# Altium integrated library Renesas Diode.IntLib: 1609 symbols (part 28 of 31)
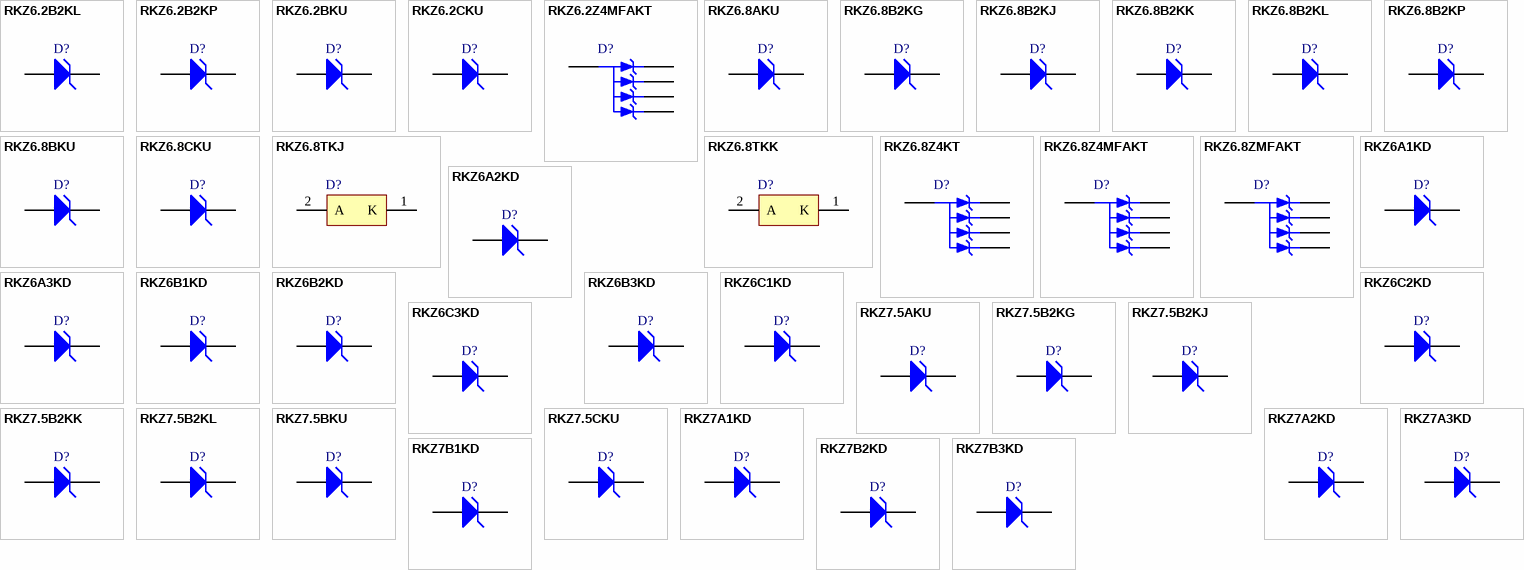
[diagram p72: symbols RKZ6.2B2KL to RKZ7B3KD]

## RKZ6A2KD
designator D?
Silicon Planar Zener Diode for Stabilized Power Supply; Published: 12-Feb-2010; DatasheetVersion: Rev.2.00, May-2008; PackageVersion: Aug-2005; PackageReference: GLZZ0002ZA-A; Publisher: Altium Limited; PackageDescription: Metal Electrode Face (MELF) Diode; Body 3.5 x 1.35 mm (LxDia); ComponentLink1Description: Manufacturer Link; ComponentLink1URL: http://sg.renesas.com/fmwk.jsp?cnt=diode_landing.jsp&fp=/products/discrete/diodes/; ComponentLink2Description: Datasheet; ComponentLink2URL: http://documentation.renesas.com/eng/products/diode/rej03g1264_rkz_kd.pdf; ComponentLink3Description: Packaging Specification; ComponentLink3URL: http://sg.renesas.com/media/products/common_info/package/pdf/diode/code/glzz0002za_a.pdf
footprint GLZZ0002ZA-A (Metal Electrode Face (MELF) Diode; Body 3.5 x 1.35 mm (LxDia))
signal-integrity model RKZ6A2KD
pins: 1 K, 2 A

## RKZ6A3KD
designator D?
Silicon Planar Zener Diode for Stabilized Power Supply; Published: 12-Feb-2010; DatasheetVersion: Rev.2.00, May-2008; PackageVersion: Aug-2005; PackageReference: GLZZ0002ZA-A; Publisher: Altium Limited; PackageDescription: Metal Electrode Face (MELF) Diode; Body 3.5 x 1.35 mm (LxDia); ComponentLink1Description: Manufacturer Link; ComponentLink1URL: http://sg.renesas.com/fmwk.jsp?cnt=diode_landing.jsp&fp=/products/discrete/diodes/; ComponentLink2Description: Datasheet; ComponentLink2URL: http://documentation.renesas.com/eng/products/diode/rej03g1264_rkz_kd.pdf; ComponentLink3Description: Packaging Specification; ComponentLink3URL: http://sg.renesas.com/media/products/common_info/package/pdf/diode/code/glzz0002za_a.pdf
footprint GLZZ0002ZA-A (Metal Electrode Face (MELF) Diode; Body 3.5 x 1.35 mm (LxDia))
signal-integrity model RKZ6A3KD
pins: 1 K, 2 A

## RKZ6B1KD
designator D?
Silicon Planar Zener Diode for Stabilized Power Supply; Published: 12-Feb-2010; DatasheetVersion: Rev.2.00, May-2008; PackageVersion: Aug-2005; PackageReference: GLZZ0002ZA-A; Publisher: Altium Limited; PackageDescription: Metal Electrode Face (MELF) Diode; Body 3.5 x 1.35 mm (LxDia); ComponentLink1Description: Manufacturer Link; ComponentLink1URL: http://sg.renesas.com/fmwk.jsp?cnt=diode_landing.jsp&fp=/products/discrete/diodes/; ComponentLink2Description: Datasheet; ComponentLink2URL: http://documentation.renesas.com/eng/products/diode/rej03g1264_rkz_kd.pdf; ComponentLink3Description: Packaging Specification; ComponentLink3URL: http://sg.renesas.com/media/products/common_info/package/pdf/diode/code/glzz0002za_a.pdf
footprint GLZZ0002ZA-A (Metal Electrode Face (MELF) Diode; Body 3.5 x 1.35 mm (LxDia))
signal-integrity model RKZ6B1KD
pins: 1 K, 2 A

## RKZ6B2KD
designator D?
Silicon Planar Zener Diode for Stabilized Power Supply; Published: 12-Feb-2010; DatasheetVersion: Rev.2.00, May-2008; PackageVersion: Aug-2005; PackageReference: GLZZ0002ZA-A; Publisher: Altium Limited; PackageDescription: Metal Electrode Face (MELF) Diode; Body 3.5 x 1.35 mm (LxDia); ComponentLink1Description: Manufacturer Link; ComponentLink1URL: http://sg.renesas.com/fmwk.jsp?cnt=diode_landing.jsp&fp=/products/discrete/diodes/; ComponentLink2Description: Datasheet; ComponentLink2URL: http://documentation.renesas.com/eng/products/diode/rej03g1264_rkz_kd.pdf; ComponentLink3Description: Packaging Specification; ComponentLink3URL: http://sg.renesas.com/media/products/common_info/package/pdf/diode/code/glzz0002za_a.pdf
footprint GLZZ0002ZA-A (Metal Electrode Face (MELF) Diode; Body 3.5 x 1.35 mm (LxDia))
signal-integrity model RKZ6B2KD
pins: 1 K, 2 A

## RKZ6B3KD
designator D?
Silicon Planar Zener Diode for Stabilized Power Supply; Published: 12-Feb-2010; DatasheetVersion: Rev.2.00, May-2008; PackageVersion: Aug-2005; PackageReference: GLZZ0002ZA-A; Publisher: Altium Limited; PackageDescription: Metal Electrode Face (MELF) Diode; Body 3.5 x 1.35 mm (LxDia); ComponentLink1Description: Manufacturer Link; ComponentLink1URL: http://sg.renesas.com/fmwk.jsp?cnt=diode_landing.jsp&fp=/products/discrete/diodes/; ComponentLink2Description: Datasheet; ComponentLink2URL: http://documentation.renesas.com/eng/products/diode/rej03g1264_rkz_kd.pdf; ComponentLink3Description: Packaging Specification; ComponentLink3URL: http://sg.renesas.com/media/products/common_info/package/pdf/diode/code/glzz0002za_a.pdf
footprint GLZZ0002ZA-A (Metal Electrode Face (MELF) Diode; Body 3.5 x 1.35 mm (LxDia))
signal-integrity model RKZ6B3KD
pins: 1 K, 2 A

## RKZ6C1KD
designator D?
Silicon Planar Zener Diode for Stabilized Power Supply; Published: 12-Feb-2010; DatasheetVersion: Rev.2.00, May-2008; PackageVersion: Aug-2005; PackageReference: GLZZ0002ZA-A; Publisher: Altium Limited; PackageDescription: Metal Electrode Face (MELF) Diode; Body 3.5 x 1.35 mm (LxDia); ComponentLink1Description: Manufacturer Link; ComponentLink1URL: http://sg.renesas.com/fmwk.jsp?cnt=diode_landing.jsp&fp=/products/discrete/diodes/; ComponentLink2Description: Datasheet; ComponentLink2URL: http://documentation.renesas.com/eng/products/diode/rej03g1264_rkz_kd.pdf; ComponentLink3Description: Packaging Specification; ComponentLink3URL: http://sg.renesas.com/media/products/common_info/package/pdf/diode/code/glzz0002za_a.pdf
footprint GLZZ0002ZA-A (Metal Electrode Face (MELF) Diode; Body 3.5 x 1.35 mm (LxDia))
signal-integrity model RKZ6C1KD
pins: 1 K, 2 A

## RKZ6C2KD
designator D?
Silicon Planar Zener Diode for Stabilized Power Supply; Published: 12-Feb-2010; DatasheetVersion: Rev.2.00, May-2008; PackageVersion: Aug-2005; PackageReference: GLZZ0002ZA-A; Publisher: Altium Limited; PackageDescription: Metal Electrode Face (MELF) Diode; Body 3.5 x 1.35 mm (LxDia); ComponentLink1Description: Manufacturer Link; ComponentLink1URL: http://sg.renesas.com/fmwk.jsp?cnt=diode_landing.jsp&fp=/products/discrete/diodes/; ComponentLink2Description: Datasheet; ComponentLink2URL: http://documentation.renesas.com/eng/products/diode/rej03g1264_rkz_kd.pdf; ComponentLink3Description: Packaging Specification; ComponentLink3URL: http://sg.renesas.com/media/products/common_info/package/pdf/diode/code/glzz0002za_a.pdf
footprint GLZZ0002ZA-A (Metal Electrode Face (MELF) Diode; Body 3.5 x 1.35 mm (LxDia))
signal-integrity model RKZ6C2KD
pins: 1 K, 2 A

## RKZ6C3KD
designator D?
Silicon Planar Zener Diode for Stabilized Power Supply; Published: 12-Feb-2010; DatasheetVersion: Rev.2.00, May-2008; PackageVersion: Aug-2005; PackageReference: GLZZ0002ZA-A; Publisher: Altium Limited; PackageDescription: Metal Electrode Face (MELF) Diode; Body 3.5 x 1.35 mm (LxDia); ComponentLink1Description: Manufacturer Link; ComponentLink1URL: http://sg.renesas.com/fmwk.jsp?cnt=diode_landing.jsp&fp=/products/discrete/diodes/; ComponentLink2Description: Datasheet; ComponentLink2URL: http://documentation.renesas.com/eng/products/diode/rej03g1264_rkz_kd.pdf; ComponentLink3Description: Packaging Specification; ComponentLink3URL: http://sg.renesas.com/media/products/common_info/package/pdf/diode/code/glzz0002za_a.pdf
footprint GLZZ0002ZA-A (Metal Electrode Face (MELF) Diode; Body 3.5 x 1.35 mm (LxDia))
signal-integrity model RKZ6C3KD
pins: 1 K, 2 A

## RKZ7.5AKU
designator D?
Silicon Planar Zener Diode for Stabilized Power Supply; Published: 12-Feb-2010; DatasheetVersion: Rev.1.00, Jul-2009; PackageVersion: Jul-2009; PackageReference: PUSF0002ZD-A; Publisher: Altium Limited; PackageDescription: 2-Pin Plastic Small Outline Diode, Flat Leads, Body 1.3 x 1.9 mm (TURP-FM); ComponentLink1Description: Manufacturer Link; ComponentLink1URL: http://sg.renesas.com/fmwk.jsp?cnt=diode_landing.jsp&fp=/products/discrete/diodes/; ComponentLink2Description: Datasheet; ComponentLink2URL: http://documentation.renesas.com/eng/products/diode/rej03g1771_rkz_kuds.pdf; ComponentLink3Description: Packaging Specification; ComponentLink3URL: http://sg.renesas.com/media/products/common_info/package/pdf/diode/code/pusf0002zd_a.pdf
footprint PUSF0002ZD-A (SOD, 2-Flat Leads, Body 1.3x1.9x0.65mm, Renesas Recommended)
signal-integrity model RKZ7.5AKU
pins: 1 K, 2 A

## RKZ7.5B2KG
designator D?
Silicon Planar Zener Diode for Surge Absorption and Stabilizer; Published: 12-Feb-2010; DatasheetVersion: Rev.3.00, Feb-2009; PackageVersion: Sep-2005; PackageReference: PTSP0002ZA-A; Publisher: Altium Limited; PackageDescription: 2-Pin SC-76 Package, 1.7 x 1.3 mm Body; Code_JEITA: SC-76A; ComponentLink1Description: Manufacturer Link; ComponentLink1URL: http://sg.renesas.com/fmwk.jsp?cnt=diode_landing.jsp&fp=/products/discrete/diodes/; ComponentLink2Description: Datasheet; ComponentLink2URL: http://documentation.renesas.com/eng/products/diode/rej03g1512_rkz_kg.pdf; ComponentLink3Description: Packaging Specification; ComponentLink3URL: http://sg.renesas.com/media/products/common_info/package/pdf/diode/code/ptsp0002za_a.pdf
footprint PTSP0002ZA-A (SC-76; 2 Leads; Body 1.7x1.3mm, Renesas Recommended)
signal-integrity model RKZ7.5B2KG
pins: 1 K, 2 A

## RKZ7.5B2KJ
designator D?
Silicon Planar Zener Diode for Surge Absorption and Stabilizer; Published: 12-Feb-2010; DatasheetVersion: Rev.1.00, Sep-2007; PackageVersion: Oct-2006; PackageReference: PWSF0002ZA-A; Publisher: Altium Limited; PackageDescription: 2-Pin Plastic Small Outline Diode, Flat Leads, Body 0.8 x 1.2 mm (UFP); Code_JEITA: SC-79; ComponentLink1Description: Manufacturer Link; ComponentLink1URL: http://sg.renesas.com/fmwk.jsp?cnt=diode_landing.jsp&fp=/products/discrete/diodes/; ComponentLink2Description: Datasheet; ComponentLink2URL: http://documentation.renesas.com/eng/products/diode/rej03g1588_rkz_kjds.pdf; ComponentLink3Description: Packaging Specification; ComponentLink3URL: http://sg.renesas.com/media/products/common_info/package/pdf/diode/code/pwsf0002za_a.pdf
footprint PWSF0002ZA-A (SOD, 2-Flat Leads, Body 0.8x1.2x0.7mm, Renesas Recommended)
signal-integrity model RKZ7.5B2KJ
pins: 1 K, 2 A

## RKZ7.5B2KK
designator D?
Silicon Planar Zener Diode for Surge Absorption and Stabilizer; Published: 12-Feb-2010; DatasheetVersion: Rev.1.00, Mar-2007; PackageVersion: Oct-2006; PackageReference: PUSF0002ZB-A; Publisher: Altium Limited; PackageDescription: 2-Pin Plastic Small Outline Diode, Flat Leads, Body 0.6 x 1.0 mm (SFP); ComponentLink1Description: Manufacturer Link; ComponentLink1URL: http://sg.renesas.com/fmwk.jsp?cnt=diode_landing.jsp&fp=/products/discrete/diodes/; ComponentLink2Description: Datasheet; ComponentLink2URL: http://documentation.renesas.com/eng/products/diode/rej03g1518_rkz_kkds.pdf; ComponentLink3Description: Packaging Specification; ComponentLink3URL: http://sg.renesas.com/media/products/common_info/package/pdf/diode/code/pusf0002zb_a.pdf
footprint PUSF0002ZB-A (SOD, 2-Flat Leads, Body 0.6x1.0x0.55mm, Renesas Recommended)
signal-integrity model RKZ7.5B2KK
pins: 1 K, 2 A

## RKZ7.5B2KL
designator D?
Silicon Planar Zener Diode for Surge Absorption and Stabilizer; Published: 12-Feb-2010; DatasheetVersion: Rev.1.00, May-2007; PackageVersion: Oct-2006; PackageReference: PXSF0002ZA-A; Publisher: Altium Limited; PackageDescription: 2-Pin Plastic Small Outline Diode, Flat Leads, Body 0.6 x 0.8 mm (EFP); ComponentLink1Description: Manufacturer Link; ComponentLink1URL: http://sg.renesas.com/fmwk.jsp?cnt=diode_landing.jsp&fp=/products/discrete/diodes/; ComponentLink2Description: Datasheet; ComponentLink2URL: http://documentation.renesas.com/eng/products/diode/rej03g1519_rkz_klds.pdf; ComponentLink3Description: Packaging Specification; ComponentLink3URL: http://sg.renesas.com/media/products/common_info/package/pdf/diode/code/pxsf0002za_a.pdf
footprint PXSF0002ZA-A (SOD, 2-Flat Leads, Body 0.6x0.8x0.5mm, Renesas Recommended)
signal-integrity model RKZ7.5B2KL
pins: 1 K, 2 A

## RKZ7.5BKU
designator D?
Silicon Planar Zener Diode for Stabilized Power Supply; Published: 12-Feb-2010; DatasheetVersion: Rev.1.00, Jul-2009; PackageVersion: Jul-2009; PackageReference: PUSF0002ZD-A; Publisher: Altium Limited; PackageDescription: 2-Pin Plastic Small Outline Diode, Flat Leads, Body 1.3 x 1.9 mm (TURP-FM); ComponentLink1Description: Manufacturer Link; ComponentLink1URL: http://sg.renesas.com/fmwk.jsp?cnt=diode_landing.jsp&fp=/products/discrete/diodes/; ComponentLink2Description: Datasheet; ComponentLink2URL: http://documentation.renesas.com/eng/products/diode/rej03g1771_rkz_kuds.pdf; ComponentLink3Description: Packaging Specification; ComponentLink3URL: http://sg.renesas.com/media/products/common_info/package/pdf/diode/code/pusf0002zd_a.pdf
footprint PUSF0002ZD-A (SOD, 2-Flat Leads, Body 1.3x1.9x0.65mm, Renesas Recommended)
signal-integrity model RKZ7.5BKU
pins: 1 K, 2 A

## RKZ7.5CKU
designator D?
Silicon Planar Zener Diode for Stabilized Power Supply; Published: 12-Feb-2010; DatasheetVersion: Rev.1.00, Jul-2009; PackageVersion: Jul-2009; PackageReference: PUSF0002ZD-A; Publisher: Altium Limited; PackageDescription: 2-Pin Plastic Small Outline Diode, Flat Leads, Body 1.3 x 1.9 mm (TURP-FM); ComponentLink1Description: Manufacturer Link; ComponentLink1URL: http://sg.renesas.com/fmwk.jsp?cnt=diode_landing.jsp&fp=/products/discrete/diodes/; ComponentLink2Description: Datasheet; ComponentLink2URL: http://documentation.renesas.com/eng/products/diode/rej03g1771_rkz_kuds.pdf; ComponentLink3Description: Packaging Specification; ComponentLink3URL: http://sg.renesas.com/media/products/common_info/package/pdf/diode/code/pusf0002zd_a.pdf
footprint PUSF0002ZD-A (SOD, 2-Flat Leads, Body 1.3x1.9x0.65mm, Renesas Recommended)
signal-integrity model RKZ7.5CKU
pins: 1 K, 2 A

## RKZ7A1KD
designator D?
Silicon Planar Zener Diode for Stabilized Power Supply; Published: 12-Feb-2010; DatasheetVersion: Rev.2.00, May-2008; PackageVersion: Aug-2005; PackageReference: GLZZ0002ZA-A; Publisher: Altium Limited; PackageDescription: Metal Electrode Face (MELF) Diode; Body 3.5 x 1.35 mm (LxDia); ComponentLink1Description: Manufacturer Link; ComponentLink1URL: http://sg.renesas.com/fmwk.jsp?cnt=diode_landing.jsp&fp=/products/discrete/diodes/; ComponentLink2Description: Datasheet; ComponentLink2URL: http://documentation.renesas.com/eng/products/diode/rej03g1264_rkz_kd.pdf; ComponentLink3Description: Packaging Specification; ComponentLink3URL: http://sg.renesas.com/media/products/common_info/package/pdf/diode/code/glzz0002za_a.pdf
footprint GLZZ0002ZA-A (Metal Electrode Face (MELF) Diode; Body 3.5 x 1.35 mm (LxDia))
signal-integrity model RKZ7A1KD
pins: 1 K, 2 A

## RKZ7A2KD
designator D?
Silicon Planar Zener Diode for Stabilized Power Supply; Published: 12-Feb-2010; DatasheetVersion: Rev.2.00, May-2008; PackageVersion: Aug-2005; PackageReference: GLZZ0002ZA-A; Publisher: Altium Limited; PackageDescription: Metal Electrode Face (MELF) Diode; Body 3.5 x 1.35 mm (LxDia); ComponentLink1Description: Manufacturer Link; ComponentLink1URL: http://sg.renesas.com/fmwk.jsp?cnt=diode_landing.jsp&fp=/products/discrete/diodes/; ComponentLink2Description: Datasheet; ComponentLink2URL: http://documentation.renesas.com/eng/products/diode/rej03g1264_rkz_kd.pdf; ComponentLink3Description: Packaging Specification; ComponentLink3URL: http://sg.renesas.com/media/products/common_info/package/pdf/diode/code/glzz0002za_a.pdf
footprint GLZZ0002ZA-A (Metal Electrode Face (MELF) Diode; Body 3.5 x 1.35 mm (LxDia))
signal-integrity model RKZ7A2KD
pins: 1 K, 2 A

## RKZ7A3KD
designator D?
Silicon Planar Zener Diode for Stabilized Power Supply; Published: 12-Feb-2010; DatasheetVersion: Rev.2.00, May-2008; PackageVersion: Aug-2005; PackageReference: GLZZ0002ZA-A; Publisher: Altium Limited; PackageDescription: Metal Electrode Face (MELF) Diode; Body 3.5 x 1.35 mm (LxDia); ComponentLink1Description: Manufacturer Link; ComponentLink1URL: http://sg.renesas.com/fmwk.jsp?cnt=diode_landing.jsp&fp=/products/discrete/diodes/; ComponentLink2Description: Datasheet; ComponentLink2URL: http://documentation.renesas.com/eng/products/diode/rej03g1264_rkz_kd.pdf; ComponentLink3Description: Packaging Specification; ComponentLink3URL: http://sg.renesas.com/media/products/common_info/package/pdf/diode/code/glzz0002za_a.pdf
footprint GLZZ0002ZA-A (Metal Electrode Face (MELF) Diode; Body 3.5 x 1.35 mm (LxDia))
signal-integrity model RKZ7A3KD
pins: 1 K, 2 A

## RKZ7B1KD
designator D?
Silicon Planar Zener Diode for Stabilized Power Supply; Published: 12-Feb-2010; DatasheetVersion: Rev.2.00, May-2008; PackageVersion: Aug-2005; PackageReference: GLZZ0002ZA-A; Publisher: Altium Limited; PackageDescription: Metal Electrode Face (MELF) Diode; Body 3.5 x 1.35 mm (LxDia); ComponentLink1Description: Manufacturer Link; ComponentLink1URL: http://sg.renesas.com/fmwk.jsp?cnt=diode_landing.jsp&fp=/products/discrete/diodes/; ComponentLink2Description: Datasheet; ComponentLink2URL: http://documentation.renesas.com/eng/products/diode/rej03g1264_rkz_kd.pdf; ComponentLink3Description: Packaging Specification; ComponentLink3URL: http://sg.renesas.com/media/products/common_info/package/pdf/diode/code/glzz0002za_a.pdf
footprint GLZZ0002ZA-A (Metal Electrode Face (MELF) Diode; Body 3.5 x 1.35 mm (LxDia))
signal-integrity model RKZ7B1KD
pins: 1 K, 2 A

## RKZ7B2KD
designator D?
Silicon Planar Zener Diode for Stabilized Power Supply; Published: 12-Feb-2010; DatasheetVersion: Rev.2.00, May-2008; PackageVersion: Aug-2005; PackageReference: GLZZ0002ZA-A; Publisher: Altium Limited; PackageDescription: Metal Electrode Face (MELF) Diode; Body 3.5 x 1.35 mm (LxDia); ComponentLink1Description: Manufacturer Link; ComponentLink1URL: http://sg.renesas.com/fmwk.jsp?cnt=diode_landing.jsp&fp=/products/discrete/diodes/; ComponentLink2Description: Datasheet; ComponentLink2URL: http://documentation.renesas.com/eng/products/diode/rej03g1264_rkz_kd.pdf; ComponentLink3Description: Packaging Specification; ComponentLink3URL: http://sg.renesas.com/media/products/common_info/package/pdf/diode/code/glzz0002za_a.pdf
footprint GLZZ0002ZA-A (Metal Electrode Face (MELF) Diode; Body 3.5 x 1.35 mm (LxDia))
signal-integrity model RKZ7B2KD
pins: 1 K, 2 A

## RKZ7B3KD
designator D?
Silicon Planar Zener Diode for Stabilized Power Supply; Published: 12-Feb-2010; DatasheetVersion: Rev.2.00, May-2008; PackageVersion: Aug-2005; PackageReference: GLZZ0002ZA-A; Publisher: Altium Limited; PackageDescription: Metal Electrode Face (MELF) Diode; Body 3.5 x 1.35 mm (LxDia); ComponentLink1Description: Manufacturer Link; ComponentLink1URL: http://sg.renesas.com/fmwk.jsp?cnt=diode_landing.jsp&fp=/products/discrete/diodes/; ComponentLink2Description: Datasheet; ComponentLink2URL: http://documentation.renesas.com/eng/products/diode/rej03g1264_rkz_kd.pdf; ComponentLink3Description: Packaging Specification; ComponentLink3URL: http://sg.renesas.com/media/products/common_info/package/pdf/diode/code/glzz0002za_a.pdf
footprint GLZZ0002ZA-A (Metal Electrode Face (MELF) Diode; Body 3.5 x 1.35 mm (LxDia))
signal-integrity model RKZ7B3KD
pins: 1 K, 2 A

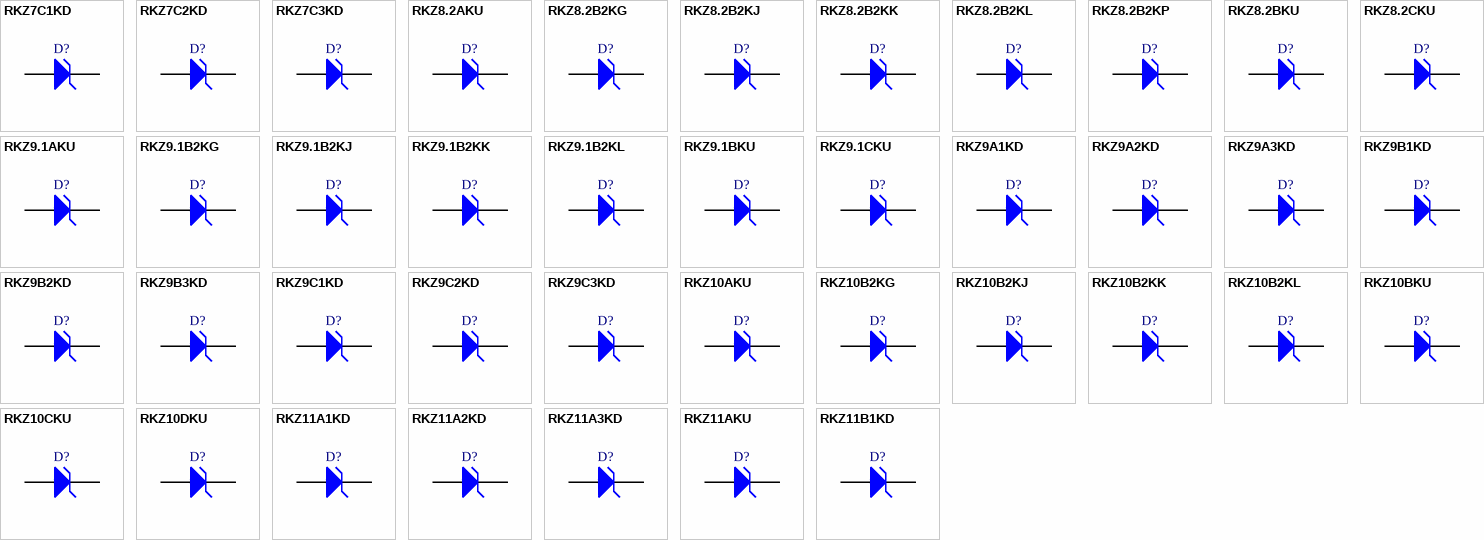
[diagram p41: symbols RKZ7C1KD to RKZ11B1KD]

## RKZ7C1KD
designator D?
Silicon Planar Zener Diode for Stabilized Power Supply; Published: 12-Feb-2010; DatasheetVersion: Rev.2.00, May-2008; PackageVersion: Aug-2005; PackageReference: GLZZ0002ZA-A; Publisher: Altium Limited; PackageDescription: Metal Electrode Face (MELF) Diode; Body 3.5 x 1.35 mm (LxDia); ComponentLink1Description: Manufacturer Link; ComponentLink1URL: http://sg.renesas.com/fmwk.jsp?cnt=diode_landing.jsp&fp=/products/discrete/diodes/; ComponentLink2Description: Datasheet; ComponentLink2URL: http://documentation.renesas.com/eng/products/diode/rej03g1264_rkz_kd.pdf; ComponentLink3Description: Packaging Specification; ComponentLink3URL: http://sg.renesas.com/media/products/common_info/package/pdf/diode/code/glzz0002za_a.pdf
footprint GLZZ0002ZA-A (Metal Electrode Face (MELF) Diode; Body 3.5 x 1.35 mm (LxDia))
signal-integrity model RKZ7C1KD
pins: 1 K, 2 A

## RKZ7C2KD
designator D?
Silicon Planar Zener Diode for Stabilized Power Supply; Published: 12-Feb-2010; DatasheetVersion: Rev.2.00, May-2008; PackageVersion: Aug-2005; PackageReference: GLZZ0002ZA-A; Publisher: Altium Limited; PackageDescription: Metal Electrode Face (MELF) Diode; Body 3.5 x 1.35 mm (LxDia); ComponentLink1Description: Manufacturer Link; ComponentLink1URL: http://sg.renesas.com/fmwk.jsp?cnt=diode_landing.jsp&fp=/products/discrete/diodes/; ComponentLink2Description: Datasheet; ComponentLink2URL: http://documentation.renesas.com/eng/products/diode/rej03g1264_rkz_kd.pdf; ComponentLink3Description: Packaging Specification; ComponentLink3URL: http://sg.renesas.com/media/products/common_info/package/pdf/diode/code/glzz0002za_a.pdf
footprint GLZZ0002ZA-A (Metal Electrode Face (MELF) Diode; Body 3.5 x 1.35 mm (LxDia))
signal-integrity model RKZ7C2KD
pins: 1 K, 2 A

## RKZ7C3KD
designator D?
Silicon Planar Zener Diode for Stabilized Power Supply; Published: 12-Feb-2010; DatasheetVersion: Rev.2.00, May-2008; PackageVersion: Aug-2005; PackageReference: GLZZ0002ZA-A; Publisher: Altium Limited; PackageDescription: Metal Electrode Face (MELF) Diode; Body 3.5 x 1.35 mm (LxDia); ComponentLink1Description: Manufacturer Link; ComponentLink1URL: http://sg.renesas.com/fmwk.jsp?cnt=diode_landing.jsp&fp=/products/discrete/diodes/; ComponentLink2Description: Datasheet; ComponentLink2URL: http://documentation.renesas.com/eng/products/diode/rej03g1264_rkz_kd.pdf; ComponentLink3Description: Packaging Specification; ComponentLink3URL: http://sg.renesas.com/media/products/common_info/package/pdf/diode/code/glzz0002za_a.pdf
footprint GLZZ0002ZA-A (Metal Electrode Face (MELF) Diode; Body 3.5 x 1.35 mm (LxDia))
signal-integrity model RKZ7C3KD
pins: 1 K, 2 A

## RKZ8.2AKU
designator D?
Silicon Planar Zener Diode for Stabilized Power Supply; Published: 12-Feb-2010; DatasheetVersion: Rev.1.00, Jul-2009; PackageVersion: Jul-2009; PackageReference: PUSF0002ZD-A; Publisher: Altium Limited; PackageDescription: 2-Pin Plastic Small Outline Diode, Flat Leads, Body 1.3 x 1.9 mm (TURP-FM); ComponentLink1Description: Manufacturer Link; ComponentLink1URL: http://sg.renesas.com/fmwk.jsp?cnt=diode_landing.jsp&fp=/products/discrete/diodes/; ComponentLink2Description: Datasheet; ComponentLink2URL: http://documentation.renesas.com/eng/products/diode/rej03g1771_rkz_kuds.pdf; ComponentLink3Description: Packaging Specification; ComponentLink3URL: http://sg.renesas.com/media/products/common_info/package/pdf/diode/code/pusf0002zd_a.pdf
footprint PUSF0002ZD-A (SOD, 2-Flat Leads, Body 1.3x1.9x0.65mm, Renesas Recommended)
signal-integrity model RKZ8.2AKU
pins: 1 K, 2 A

## RKZ8.2B2KG
designator D?
Silicon Planar Zener Diode for Surge Absorption and Stabilizer; Published: 12-Feb-2010; DatasheetVersion: Rev.3.00, Feb-2009; PackageVersion: Sep-2005; PackageReference: PTSP0002ZA-A; Publisher: Altium Limited; PackageDescription: 2-Pin SC-76 Package, 1.7 x 1.3 mm Body; Code_JEITA: SC-76A; ComponentLink1Description: Manufacturer Link; ComponentLink1URL: http://sg.renesas.com/fmwk.jsp?cnt=diode_landing.jsp&fp=/products/discrete/diodes/; ComponentLink2Description: Datasheet; ComponentLink2URL: http://documentation.renesas.com/eng/products/diode/rej03g1512_rkz_kg.pdf; ComponentLink3Description: Packaging Specification; ComponentLink3URL: http://sg.renesas.com/media/products/common_info/package/pdf/diode/code/ptsp0002za_a.pdf
footprint PTSP0002ZA-A (SC-76; 2 Leads; Body 1.7x1.3mm, Renesas Recommended)
signal-integrity model RKZ8.2B2KG
pins: 1 K, 2 A

## RKZ8.2B2KJ
designator D?
Silicon Planar Zener Diode for Surge Absorption and Stabilizer; Published: 12-Feb-2010; DatasheetVersion: Rev.1.00, Sep-2007; PackageVersion: Oct-2006; PackageReference: PWSF0002ZA-A; Publisher: Altium Limited; PackageDescription: 2-Pin Plastic Small Outline Diode, Flat Leads, Body 0.8 x 1.2 mm (UFP); Code_JEITA: SC-79; ComponentLink1Description: Manufacturer Link; ComponentLink1URL: http://sg.renesas.com/fmwk.jsp?cnt=diode_landing.jsp&fp=/products/discrete/diodes/; ComponentLink2Description: Datasheet; ComponentLink2URL: http://documentation.renesas.com/eng/products/diode/rej03g1588_rkz_kjds.pdf; ComponentLink3Description: Packaging Specification; ComponentLink3URL: http://sg.renesas.com/media/products/common_info/package/pdf/diode/code/pwsf0002za_a.pdf
footprint PWSF0002ZA-A (SOD, 2-Flat Leads, Body 0.8x1.2x0.7mm, Renesas Recommended)
signal-integrity model RKZ8.2B2KJ
pins: 1 K, 2 A

## RKZ8.2B2KK
designator D?
Silicon Planar Zener Diode for Surge Absorption and Stabilizer; Published: 12-Feb-2010; DatasheetVersion: Rev.1.00, Mar-2007; PackageVersion: Oct-2006; PackageReference: PUSF0002ZB-A; Publisher: Altium Limited; PackageDescription: 2-Pin Plastic Small Outline Diode, Flat Leads, Body 0.6 x 1.0 mm (SFP); ComponentLink1Description: Manufacturer Link; ComponentLink1URL: http://sg.renesas.com/fmwk.jsp?cnt=diode_landing.jsp&fp=/products/discrete/diodes/; ComponentLink2Description: Datasheet; ComponentLink2URL: http://documentation.renesas.com/eng/products/diode/rej03g1518_rkz_kkds.pdf; ComponentLink3Description: Packaging Specification; ComponentLink3URL: http://sg.renesas.com/media/products/common_info/package/pdf/diode/code/pusf0002zb_a.pdf
footprint PUSF0002ZB-A (SOD, 2-Flat Leads, Body 0.6x1.0x0.55mm, Renesas Recommended)
signal-integrity model RKZ8.2B2KK
pins: 1 K, 2 A

## RKZ8.2B2KL
designator D?
Silicon Planar Zener Diode for Surge Absorption and Stabilizer; Published: 12-Feb-2010; DatasheetVersion: Rev.1.00, May-2007; PackageVersion: Oct-2006; PackageReference: PXSF0002ZA-A; Publisher: Altium Limited; PackageDescription: 2-Pin Plastic Small Outline Diode, Flat Leads, Body 0.6 x 0.8 mm (EFP); ComponentLink1Description: Manufacturer Link; ComponentLink1URL: http://sg.renesas.com/fmwk.jsp?cnt=diode_landing.jsp&fp=/products/discrete/diodes/; ComponentLink2Description: Datasheet; ComponentLink2URL: http://documentation.renesas.com/eng/products/diode/rej03g1519_rkz_klds.pdf; ComponentLink3Description: Packaging Specification; ComponentLink3URL: http://sg.renesas.com/media/products/common_info/package/pdf/diode/code/pxsf0002za_a.pdf
footprint PXSF0002ZA-A (SOD, 2-Flat Leads, Body 0.6x0.8x0.5mm, Renesas Recommended)
signal-integrity model RKZ8.2B2KL
pins: 1 K, 2 A

## RKZ8.2B2KP
designator D?
Silicon Planar Zener Diode for Surge Absorption; Published: 12-Feb-2010; DatasheetVersion: Rev.1.00, Aug-2008; PackageVersion: Jul-2006; PackageReference: PXSN0002ZB-A; Publisher: Altium Limited; PackageDescription: Chip Diode 0201 Case Size; ComponentLink1Description: Manufacturer Link; ComponentLink1URL: http://sg.renesas.com/fmwk.jsp?cnt=diode_landing.jsp&fp=/products/discrete/diodes/; ComponentLink2Description: Datasheet; ComponentLink2URL: http://documentation.renesas.com/eng/products/diode/rej03g1728_rkz_kpds.pdf; ComponentLink3Description: Packaging Specification; ComponentLink3URL: http://sg.renesas.com/media/products/common_info/package/pdf/diode/code/pxsn0002zb_a.pdf
footprint PXSN0002ZB-A_V (Chip Diode; Body 0.62x0.32mm, Renesas Recommended)
footprint PXSN0002ZB-A_N (Chip Diode; Body 0.62x0.32mm, IPC Medium Density)
footprint PXSN0002ZB-A_L (Chip Diode; Body 0.62x0.32mm, IPC High Density)
footprint PXSN0002ZB-A_M (Chip Diode; Body 0.62x0.32mm, IPC Low Density)
signal-integrity model RKZ8.2B2KP
pins: 1 K, 2 A

## RKZ8.2BKU
designator D?
Silicon Planar Zener Diode for Stabilized Power Supply; Published: 12-Feb-2010; DatasheetVersion: Rev.1.00, Jul-2009; PackageVersion: Jul-2009; PackageReference: PUSF0002ZD-A; Publisher: Altium Limited; PackageDescription: 2-Pin Plastic Small Outline Diode, Flat Leads, Body 1.3 x 1.9 mm (TURP-FM); ComponentLink1Description: Manufacturer Link; ComponentLink1URL: http://sg.renesas.com/fmwk.jsp?cnt=diode_landing.jsp&fp=/products/discrete/diodes/; ComponentLink2Description: Datasheet; ComponentLink2URL: http://documentation.renesas.com/eng/products/diode/rej03g1771_rkz_kuds.pdf; ComponentLink3Description: Packaging Specification; ComponentLink3URL: http://sg.renesas.com/media/products/common_info/package/pdf/diode/code/pusf0002zd_a.pdf
footprint PUSF0002ZD-A (SOD, 2-Flat Leads, Body 1.3x1.9x0.65mm, Renesas Recommended)
signal-integrity model RKZ8.2BKU
pins: 1 K, 2 A

## RKZ8.2CKU
designator D?
Silicon Planar Zener Diode for Stabilized Power Supply; Published: 12-Feb-2010; DatasheetVersion: Rev.1.00, Jul-2009; PackageVersion: Jul-2009; PackageReference: PUSF0002ZD-A; Publisher: Altium Limited; PackageDescription: 2-Pin Plastic Small Outline Diode, Flat Leads, Body 1.3 x 1.9 mm (TURP-FM); ComponentLink1Description: Manufacturer Link; ComponentLink1URL: http://sg.renesas.com/fmwk.jsp?cnt=diode_landing.jsp&fp=/products/discrete/diodes/; ComponentLink2Description: Datasheet; ComponentLink2URL: http://documentation.renesas.com/eng/products/diode/rej03g1771_rkz_kuds.pdf; ComponentLink3Description: Packaging Specification; ComponentLink3URL: http://sg.renesas.com/media/products/common_info/package/pdf/diode/code/pusf0002zd_a.pdf
footprint PUSF0002ZD-A (SOD, 2-Flat Leads, Body 1.3x1.9x0.65mm, Renesas Recommended)
signal-integrity model RKZ8.2CKU
pins: 1 K, 2 A

## RKZ9.1AKU
designator D?
Silicon Planar Zener Diode for Stabilized Power Supply; Published: 12-Feb-2010; DatasheetVersion: Rev.1.00, Jul-2009; PackageVersion: Jul-2009; PackageReference: PUSF0002ZD-A; Publisher: Altium Limited; PackageDescription: 2-Pin Plastic Small Outline Diode, Flat Leads, Body 1.3 x 1.9 mm (TURP-FM); ComponentLink1Description: Manufacturer Link; ComponentLink1URL: http://sg.renesas.com/fmwk.jsp?cnt=diode_landing.jsp&fp=/products/discrete/diodes/; ComponentLink2Description: Datasheet; ComponentLink2URL: http://documentation.renesas.com/eng/products/diode/rej03g1771_rkz_kuds.pdf; ComponentLink3Description: Packaging Specification; ComponentLink3URL: http://sg.renesas.com/media/products/common_info/package/pdf/diode/code/pusf0002zd_a.pdf
footprint PUSF0002ZD-A (SOD, 2-Flat Leads, Body 1.3x1.9x0.65mm, Renesas Recommended)
signal-integrity model RKZ9.1AKU
pins: 1 K, 2 A

## RKZ9.1B2KG
designator D?
Silicon Planar Zener Diode for Surge Absorption and Stabilizer; Published: 12-Feb-2010; DatasheetVersion: Rev.3.00, Feb-2009; PackageVersion: Sep-2005; PackageReference: PTSP0002ZA-A; Publisher: Altium Limited; PackageDescription: 2-Pin SC-76 Package, 1.7 x 1.3 mm Body; Code_JEITA: SC-76A; ComponentLink1Description: Manufacturer Link; ComponentLink1URL: http://sg.renesas.com/fmwk.jsp?cnt=diode_landing.jsp&fp=/products/discrete/diodes/; ComponentLink2Description: Datasheet; ComponentLink2URL: http://documentation.renesas.com/eng/products/diode/rej03g1512_rkz_kg.pdf; ComponentLink3Description: Packaging Specification; ComponentLink3URL: http://sg.renesas.com/media/products/common_info/package/pdf/diode/code/ptsp0002za_a.pdf
footprint PTSP0002ZA-A (SC-76; 2 Leads; Body 1.7x1.3mm, Renesas Recommended)
signal-integrity model RKZ9.1B2KG
pins: 1 K, 2 A

## RKZ9.1B2KJ
designator D?
Silicon Planar Zener Diode for Surge Absorption and Stabilizer; Published: 12-Feb-2010; DatasheetVersion: Rev.1.00, Sep-2007; PackageVersion: Oct-2006; PackageReference: PWSF0002ZA-A; Publisher: Altium Limited; PackageDescription: 2-Pin Plastic Small Outline Diode, Flat Leads, Body 0.8 x 1.2 mm (UFP); Code_JEITA: SC-79; ComponentLink1Description: Manufacturer Link; ComponentLink1URL: http://sg.renesas.com/fmwk.jsp?cnt=diode_landing.jsp&fp=/products/discrete/diodes/; ComponentLink2Description: Datasheet; ComponentLink2URL: http://documentation.renesas.com/eng/products/diode/rej03g1588_rkz_kjds.pdf; ComponentLink3Description: Packaging Specification; ComponentLink3URL: http://sg.renesas.com/media/products/common_info/package/pdf/diode/code/pwsf0002za_a.pdf
footprint PWSF0002ZA-A (SOD, 2-Flat Leads, Body 0.8x1.2x0.7mm, Renesas Recommended)
signal-integrity model RKZ9.1B2KJ
pins: 1 K, 2 A

## RKZ9.1B2KK
designator D?
Silicon Planar Zener Diode for Surge Absorption and Stabilizer; Published: 12-Feb-2010; DatasheetVersion: Rev.1.00, Mar-2007; PackageVersion: Oct-2006; PackageReference: PUSF0002ZB-A; Publisher: Altium Limited; PackageDescription: 2-Pin Plastic Small Outline Diode, Flat Leads, Body 0.6 x 1.0 mm (SFP); ComponentLink1Description: Manufacturer Link; ComponentLink1URL: http://sg.renesas.com/fmwk.jsp?cnt=diode_landing.jsp&fp=/products/discrete/diodes/; ComponentLink2Description: Datasheet; ComponentLink2URL: http://documentation.renesas.com/eng/products/diode/rej03g1518_rkz_kkds.pdf; ComponentLink3Description: Packaging Specification; ComponentLink3URL: http://sg.renesas.com/media/products/common_info/package/pdf/diode/code/pusf0002zb_a.pdf
footprint PUSF0002ZB-A (SOD, 2-Flat Leads, Body 0.6x1.0x0.55mm, Renesas Recommended)
signal-integrity model RKZ9.1B2KK
pins: 1 K, 2 A

## RKZ9.1B2KL
designator D?
Silicon Planar Zener Diode for Surge Absorption and Stabilizer; Published: 12-Feb-2010; DatasheetVersion: Rev.1.00, May-2007; PackageVersion: Oct-2006; PackageReference: PXSF0002ZA-A; Publisher: Altium Limited; PackageDescription: 2-Pin Plastic Small Outline Diode, Flat Leads, Body 0.6 x 0.8 mm (EFP); ComponentLink1Description: Manufacturer Link; ComponentLink1URL: http://sg.renesas.com/fmwk.jsp?cnt=diode_landing.jsp&fp=/products/discrete/diodes/; ComponentLink2Description: Datasheet; ComponentLink2URL: http://documentation.renesas.com/eng/products/diode/rej03g1519_rkz_klds.pdf; ComponentLink3Description: Packaging Specification; ComponentLink3URL: http://sg.renesas.com/media/products/common_info/package/pdf/diode/code/pxsf0002za_a.pdf
footprint PXSF0002ZA-A (SOD, 2-Flat Leads, Body 0.6x0.8x0.5mm, Renesas Recommended)
signal-integrity model RKZ9.1B2KL
pins: 1 K, 2 A

## RKZ9.1BKU
designator D?
Silicon Planar Zener Diode for Stabilized Power Supply; Published: 12-Feb-2010; DatasheetVersion: Rev.1.00, Jul-2009; PackageVersion: Jul-2009; PackageReference: PUSF0002ZD-A; Publisher: Altium Limited; PackageDescription: 2-Pin Plastic Small Outline Diode, Flat Leads, Body 1.3 x 1.9 mm (TURP-FM); ComponentLink1Description: Manufacturer Link; ComponentLink1URL: http://sg.renesas.com/fmwk.jsp?cnt=diode_landing.jsp&fp=/products/discrete/diodes/; ComponentLink2Description: Datasheet; ComponentLink2URL: http://documentation.renesas.com/eng/products/diode/rej03g1771_rkz_kuds.pdf; ComponentLink3Description: Packaging Specification; ComponentLink3URL: http://sg.renesas.com/media/products/common_info/package/pdf/diode/code/pusf0002zd_a.pdf
footprint PUSF0002ZD-A (SOD, 2-Flat Leads, Body 1.3x1.9x0.65mm, Renesas Recommended)
signal-integrity model RKZ9.1BKU
pins: 1 K, 2 A

## RKZ9.1CKU
designator D?
Silicon Planar Zener Diode for Stabilized Power Supply; Published: 12-Feb-2010; DatasheetVersion: Rev.1.00, Jul-2009; PackageVersion: Jul-2009; PackageReference: PUSF0002ZD-A; Publisher: Altium Limited; PackageDescription: 2-Pin Plastic Small Outline Diode, Flat Leads, Body 1.3 x 1.9 mm (TURP-FM); ComponentLink1Description: Manufacturer Link; ComponentLink1URL: http://sg.renesas.com/fmwk.jsp?cnt=diode_landing.jsp&fp=/products/discrete/diodes/; ComponentLink2Description: Datasheet; ComponentLink2URL: http://documentation.renesas.com/eng/products/diode/rej03g1771_rkz_kuds.pdf; ComponentLink3Description: Packaging Specification; ComponentLink3URL: http://sg.renesas.com/media/products/common_info/package/pdf/diode/code/pusf0002zd_a.pdf
footprint PUSF0002ZD-A (SOD, 2-Flat Leads, Body 1.3x1.9x0.65mm, Renesas Recommended)
signal-integrity model RKZ9.1CKU
pins: 1 K, 2 A

## RKZ9A1KD
designator D?
Silicon Planar Zener Diode for Stabilized Power Supply; Published: 12-Feb-2010; DatasheetVersion: Rev.2.00, May-2008; PackageVersion: Aug-2005; PackageReference: GLZZ0002ZA-A; Publisher: Altium Limited; PackageDescription: Metal Electrode Face (MELF) Diode; Body 3.5 x 1.35 mm (LxDia); ComponentLink1Description: Manufacturer Link; ComponentLink1URL: http://sg.renesas.com/fmwk.jsp?cnt=diode_landing.jsp&fp=/products/discrete/diodes/; ComponentLink2Description: Datasheet; ComponentLink2URL: http://documentation.renesas.com/eng/products/diode/rej03g1264_rkz_kd.pdf; ComponentLink3Description: Packaging Specification; ComponentLink3URL: http://sg.renesas.com/media/products/common_info/package/pdf/diode/code/glzz0002za_a.pdf
footprint GLZZ0002ZA-A (Metal Electrode Face (MELF) Diode; Body 3.5 x 1.35 mm (LxDia))
signal-integrity model RKZ9A1KD
pins: 1 K, 2 A

## RKZ9A2KD
designator D?
Silicon Planar Zener Diode for Stabilized Power Supply; Published: 12-Feb-2010; DatasheetVersion: Rev.2.00, May-2008; PackageVersion: Aug-2005; PackageReference: GLZZ0002ZA-A; Publisher: Altium Limited; PackageDescription: Metal Electrode Face (MELF) Diode; Body 3.5 x 1.35 mm (LxDia); ComponentLink1Description: Manufacturer Link; ComponentLink1URL: http://sg.renesas.com/fmwk.jsp?cnt=diode_landing.jsp&fp=/products/discrete/diodes/; ComponentLink2Description: Datasheet; ComponentLink2URL: http://documentation.renesas.com/eng/products/diode/rej03g1264_rkz_kd.pdf; ComponentLink3Description: Packaging Specification; ComponentLink3URL: http://sg.renesas.com/media/products/common_info/package/pdf/diode/code/glzz0002za_a.pdf
footprint GLZZ0002ZA-A (Metal Electrode Face (MELF) Diode; Body 3.5 x 1.35 mm (LxDia))
signal-integrity model RKZ9A2KD
pins: 1 K, 2 A

## RKZ9A3KD
designator D?
Silicon Planar Zener Diode for Stabilized Power Supply; Published: 12-Feb-2010; DatasheetVersion: Rev.2.00, May-2008; PackageVersion: Aug-2005; PackageReference: GLZZ0002ZA-A; Publisher: Altium Limited; PackageDescription: Metal Electrode Face (MELF) Diode; Body 3.5 x 1.35 mm (LxDia); ComponentLink1Description: Manufacturer Link; ComponentLink1URL: http://sg.renesas.com/fmwk.jsp?cnt=diode_landing.jsp&fp=/products/discrete/diodes/; ComponentLink2Description: Datasheet; ComponentLink2URL: http://documentation.renesas.com/eng/products/diode/rej03g1264_rkz_kd.pdf; ComponentLink3Description: Packaging Specification; ComponentLink3URL: http://sg.renesas.com/media/products/common_info/package/pdf/diode/code/glzz0002za_a.pdf
footprint GLZZ0002ZA-A (Metal Electrode Face (MELF) Diode; Body 3.5 x 1.35 mm (LxDia))
signal-integrity model RKZ9A3KD
pins: 1 K, 2 A

## RKZ9B1KD
designator D?
Silicon Planar Zener Diode for Stabilized Power Supply; Published: 12-Feb-2010; DatasheetVersion: Rev.2.00, May-2008; PackageVersion: Aug-2005; PackageReference: GLZZ0002ZA-A; Publisher: Altium Limited; PackageDescription: Metal Electrode Face (MELF) Diode; Body 3.5 x 1.35 mm (LxDia); ComponentLink1Description: Manufacturer Link; ComponentLink1URL: http://sg.renesas.com/fmwk.jsp?cnt=diode_landing.jsp&fp=/products/discrete/diodes/; ComponentLink2Description: Datasheet; ComponentLink2URL: http://documentation.renesas.com/eng/products/diode/rej03g1264_rkz_kd.pdf; ComponentLink3Description: Packaging Specification; ComponentLink3URL: http://sg.renesas.com/media/products/common_info/package/pdf/diode/code/glzz0002za_a.pdf
footprint GLZZ0002ZA-A (Metal Electrode Face (MELF) Diode; Body 3.5 x 1.35 mm (LxDia))
signal-integrity model RKZ9B1KD
pins: 1 K, 2 A

## RKZ9B2KD
designator D?
Silicon Planar Zener Diode for Stabilized Power Supply; Published: 12-Feb-2010; DatasheetVersion: Rev.2.00, May-2008; PackageVersion: Aug-2005; PackageReference: GLZZ0002ZA-A; Publisher: Altium Limited; PackageDescription: Metal Electrode Face (MELF) Diode; Body 3.5 x 1.35 mm (LxDia); ComponentLink1Description: Manufacturer Link; ComponentLink1URL: http://sg.renesas.com/fmwk.jsp?cnt=diode_landing.jsp&fp=/products/discrete/diodes/; ComponentLink2Description: Datasheet; ComponentLink2URL: http://documentation.renesas.com/eng/products/diode/rej03g1264_rkz_kd.pdf; ComponentLink3Description: Packaging Specification; ComponentLink3URL: http://sg.renesas.com/media/products/common_info/package/pdf/diode/code/glzz0002za_a.pdf
footprint GLZZ0002ZA-A (Metal Electrode Face (MELF) Diode; Body 3.5 x 1.35 mm (LxDia))
signal-integrity model RKZ9B2KD
pins: 1 K, 2 A

## RKZ9B3KD
designator D?
Silicon Planar Zener Diode for Stabilized Power Supply; Published: 12-Feb-2010; DatasheetVersion: Rev.2.00, May-2008; PackageVersion: Aug-2005; PackageReference: GLZZ0002ZA-A; Publisher: Altium Limited; PackageDescription: Metal Electrode Face (MELF) Diode; Body 3.5 x 1.35 mm (LxDia); ComponentLink1Description: Manufacturer Link; ComponentLink1URL: http://sg.renesas.com/fmwk.jsp?cnt=diode_landing.jsp&fp=/products/discrete/diodes/; ComponentLink2Description: Datasheet; ComponentLink2URL: http://documentation.renesas.com/eng/products/diode/rej03g1264_rkz_kd.pdf; ComponentLink3Description: Packaging Specification; ComponentLink3URL: http://sg.renesas.com/media/products/common_info/package/pdf/diode/code/glzz0002za_a.pdf
footprint GLZZ0002ZA-A (Metal Electrode Face (MELF) Diode; Body 3.5 x 1.35 mm (LxDia))
signal-integrity model RKZ9B3KD
pins: 1 K, 2 A

## RKZ9C1KD
designator D?
Silicon Planar Zener Diode for Stabilized Power Supply; Published: 12-Feb-2010; DatasheetVersion: Rev.2.00, May-2008; PackageVersion: Aug-2005; PackageReference: GLZZ0002ZA-A; Publisher: Altium Limited; PackageDescription: Metal Electrode Face (MELF) Diode; Body 3.5 x 1.35 mm (LxDia); ComponentLink1Description: Manufacturer Link; ComponentLink1URL: http://sg.renesas.com/fmwk.jsp?cnt=diode_landing.jsp&fp=/products/discrete/diodes/; ComponentLink2Description: Datasheet; ComponentLink2URL: http://documentation.renesas.com/eng/products/diode/rej03g1264_rkz_kd.pdf; ComponentLink3Description: Packaging Specification; ComponentLink3URL: http://sg.renesas.com/media/products/common_info/package/pdf/diode/code/glzz0002za_a.pdf
footprint GLZZ0002ZA-A (Metal Electrode Face (MELF) Diode; Body 3.5 x 1.35 mm (LxDia))
signal-integrity model RKZ9C1KD
pins: 1 K, 2 A

## RKZ9C2KD
designator D?
Silicon Planar Zener Diode for Stabilized Power Supply; Published: 12-Feb-2010; DatasheetVersion: Rev.2.00, May-2008; PackageVersion: Aug-2005; PackageReference: GLZZ0002ZA-A; Publisher: Altium Limited; PackageDescription: Metal Electrode Face (MELF) Diode; Body 3.5 x 1.35 mm (LxDia); ComponentLink1Description: Manufacturer Link; ComponentLink1URL: http://sg.renesas.com/fmwk.jsp?cnt=diode_landing.jsp&fp=/products/discrete/diodes/; ComponentLink2Description: Datasheet; ComponentLink2URL: http://documentation.renesas.com/eng/products/diode/rej03g1264_rkz_kd.pdf; ComponentLink3Description: Packaging Specification; ComponentLink3URL: http://sg.renesas.com/media/products/common_info/package/pdf/diode/code/glzz0002za_a.pdf
footprint GLZZ0002ZA-A (Metal Electrode Face (MELF) Diode; Body 3.5 x 1.35 mm (LxDia))
signal-integrity model RKZ9C2KD
pins: 1 K, 2 A

## RKZ9C3KD
designator D?
Silicon Planar Zener Diode for Stabilized Power Supply; Published: 12-Feb-2010; DatasheetVersion: Rev.2.00, May-2008; PackageVersion: Aug-2005; PackageReference: GLZZ0002ZA-A; Publisher: Altium Limited; PackageDescription: Metal Electrode Face (MELF) Diode; Body 3.5 x 1.35 mm (LxDia); ComponentLink1Description: Manufacturer Link; ComponentLink1URL: http://sg.renesas.com/fmwk.jsp?cnt=diode_landing.jsp&fp=/products/discrete/diodes/; ComponentLink2Description: Datasheet; ComponentLink2URL: http://documentation.renesas.com/eng/products/diode/rej03g1264_rkz_kd.pdf; ComponentLink3Description: Packaging Specification; ComponentLink3URL: http://sg.renesas.com/media/products/common_info/package/pdf/diode/code/glzz0002za_a.pdf
footprint GLZZ0002ZA-A (Metal Electrode Face (MELF) Diode; Body 3.5 x 1.35 mm (LxDia))
signal-integrity model RKZ9C3KD
pins: 1 K, 2 A

## RKZ10AKU
designator D?
Silicon Planar Zener Diode for Stabilized Power Supply; Published: 12-Feb-2010; DatasheetVersion: Rev.1.00, Jul-2009; PackageVersion: Jul-2009; PackageReference: PUSF0002ZD-A; Publisher: Altium Limited; PackageDescription: 2-Pin Plastic Small Outline Diode, Flat Leads, Body 1.3 x 1.9 mm (TURP-FM); ComponentLink1Description: Manufacturer Link; ComponentLink1URL: http://sg.renesas.com/fmwk.jsp?cnt=diode_landing.jsp&fp=/products/discrete/diodes/; ComponentLink2Description: Datasheet; ComponentLink2URL: http://documentation.renesas.com/eng/products/diode/rej03g1771_rkz_kuds.pdf; ComponentLink3Description: Packaging Specification; ComponentLink3URL: http://sg.renesas.com/media/products/common_info/package/pdf/diode/code/pusf0002zd_a.pdf
footprint PUSF0002ZD-A (SOD, 2-Flat Leads, Body 1.3x1.9x0.65mm, Renesas Recommended)
signal-integrity model RKZ10AKU
pins: 1 K, 2 A

## RKZ10B2KG
designator D?
Silicon Planar Zener Diode for Surge Absorption and Stabilizer; Published: 12-Feb-2010; DatasheetVersion: Rev.3.00, Feb-2009; PackageVersion: Sep-2005; PackageReference: PTSP0002ZA-A; Publisher: Altium Limited; PackageDescription: 2-Pin SC-76 Package, 1.7 x 1.3 mm Body; Code_JEITA: SC-76A; ComponentLink1Description: Manufacturer Link; ComponentLink1URL: http://sg.renesas.com/fmwk.jsp?cnt=diode_landing.jsp&fp=/products/discrete/diodes/; ComponentLink2Description: Datasheet; ComponentLink2URL: http://documentation.renesas.com/eng/products/diode/rej03g1512_rkz_kg.pdf; ComponentLink3Description: Packaging Specification; ComponentLink3URL: http://sg.renesas.com/media/products/common_info/package/pdf/diode/code/ptsp0002za_a.pdf
footprint PTSP0002ZA-A (SC-76; 2 Leads; Body 1.7x1.3mm, Renesas Recommended)
signal-integrity model RKZ10B2KG
pins: 1 K, 2 A

## RKZ10B2KJ
designator D?
Silicon Planar Zener Diode for Surge Absorption and Stabilizer; Published: 12-Feb-2010; DatasheetVersion: Rev.1.00, Sep-2007; PackageVersion: Oct-2006; PackageReference: PWSF0002ZA-A; Publisher: Altium Limited; PackageDescription: 2-Pin Plastic Small Outline Diode, Flat Leads, Body 0.8 x 1.2 mm (UFP); Code_JEITA: SC-79; ComponentLink1Description: Manufacturer Link; ComponentLink1URL: http://sg.renesas.com/fmwk.jsp?cnt=diode_landing.jsp&fp=/products/discrete/diodes/; ComponentLink2Description: Datasheet; ComponentLink2URL: http://documentation.renesas.com/eng/products/diode/rej03g1588_rkz_kjds.pdf; ComponentLink3Description: Packaging Specification; ComponentLink3URL: http://sg.renesas.com/media/products/common_info/package/pdf/diode/code/pwsf0002za_a.pdf
footprint PWSF0002ZA-A (SOD, 2-Flat Leads, Body 0.8x1.2x0.7mm, Renesas Recommended)
signal-integrity model RKZ10B2KJ
pins: 1 K, 2 A

## RKZ10B2KK
designator D?
Silicon Planar Zener Diode for Surge Absorption and Stabilizer; Published: 12-Feb-2010; DatasheetVersion: Rev.1.00, Mar-2007; PackageVersion: Oct-2006; PackageReference: PUSF0002ZB-A; Publisher: Altium Limited; PackageDescription: 2-Pin Plastic Small Outline Diode, Flat Leads, Body 0.6 x 1.0 mm (SFP); ComponentLink1Description: Manufacturer Link; ComponentLink1URL: http://sg.renesas.com/fmwk.jsp?cnt=diode_landing.jsp&fp=/products/discrete/diodes/; ComponentLink2Description: Datasheet; ComponentLink2URL: http://documentation.renesas.com/eng/products/diode/rej03g1518_rkz_kkds.pdf; ComponentLink3Description: Packaging Specification; ComponentLink3URL: http://sg.renesas.com/media/products/common_info/package/pdf/diode/code/pusf0002zb_a.pdf
footprint PUSF0002ZB-A (SOD, 2-Flat Leads, Body 0.6x1.0x0.55mm, Renesas Recommended)
signal-integrity model RKZ10B2KK
pins: 1 K, 2 A

## RKZ10B2KL
designator D?
Silicon Planar Zener Diode for Surge Absorption and Stabilizer; Published: 12-Feb-2010; DatasheetVersion: Rev.1.00, May-2007; PackageVersion: Oct-2006; PackageReference: PXSF0002ZA-A; Publisher: Altium Limited; PackageDescription: 2-Pin Plastic Small Outline Diode, Flat Leads, Body 0.6 x 0.8 mm (EFP); ComponentLink1Description: Manufacturer Link; ComponentLink1URL: http://sg.renesas.com/fmwk.jsp?cnt=diode_landing.jsp&fp=/products/discrete/diodes/; ComponentLink2Description: Datasheet; ComponentLink2URL: http://documentation.renesas.com/eng/products/diode/rej03g1519_rkz_klds.pdf; ComponentLink3Description: Packaging Specification; ComponentLink3URL: http://sg.renesas.com/media/products/common_info/package/pdf/diode/code/pxsf0002za_a.pdf
footprint PXSF0002ZA-A (SOD, 2-Flat Leads, Body 0.6x0.8x0.5mm, Renesas Recommended)
signal-integrity model RKZ10B2KL
pins: 1 K, 2 A

## RKZ10BKU
designator D?
Silicon Planar Zener Diode for Stabilized Power Supply; Published: 12-Feb-2010; DatasheetVersion: Rev.1.00, Jul-2009; PackageVersion: Jul-2009; PackageReference: PUSF0002ZD-A; Publisher: Altium Limited; PackageDescription: 2-Pin Plastic Small Outline Diode, Flat Leads, Body 1.3 x 1.9 mm (TURP-FM); ComponentLink1Description: Manufacturer Link; ComponentLink1URL: http://sg.renesas.com/fmwk.jsp?cnt=diode_landing.jsp&fp=/products/discrete/diodes/; ComponentLink2Description: Datasheet; ComponentLink2URL: http://documentation.renesas.com/eng/products/diode/rej03g1771_rkz_kuds.pdf; ComponentLink3Description: Packaging Specification; ComponentLink3URL: http://sg.renesas.com/media/products/common_info/package/pdf/diode/code/pusf0002zd_a.pdf
footprint PUSF0002ZD-A (SOD, 2-Flat Leads, Body 1.3x1.9x0.65mm, Renesas Recommended)
signal-integrity model RKZ10BKU
pins: 1 K, 2 A

## RKZ10CKU
designator D?
Silicon Planar Zener Diode for Stabilized Power Supply; Published: 12-Feb-2010; DatasheetVersion: Rev.1.00, Jul-2009; PackageVersion: Jul-2009; PackageReference: PUSF0002ZD-A; Publisher: Altium Limited; PackageDescription: 2-Pin Plastic Small Outline Diode, Flat Leads, Body 1.3 x 1.9 mm (TURP-FM); ComponentLink1Description: Manufacturer Link; ComponentLink1URL: http://sg.renesas.com/fmwk.jsp?cnt=diode_landing.jsp&fp=/products/discrete/diodes/; ComponentLink2Description: Datasheet; ComponentLink2URL: http://documentation.renesas.com/eng/products/diode/rej03g1771_rkz_kuds.pdf; ComponentLink3Description: Packaging Specification; ComponentLink3URL: http://sg.renesas.com/media/products/common_info/package/pdf/diode/code/pusf0002zd_a.pdf
footprint PUSF0002ZD-A (SOD, 2-Flat Leads, Body 1.3x1.9x0.65mm, Renesas Recommended)
signal-integrity model RKZ10CKU
pins: 1 K, 2 A